# EAGLE library part JOYSTICK_MINI (library Dennistries-Josh)
Joystick Mini A small joystick
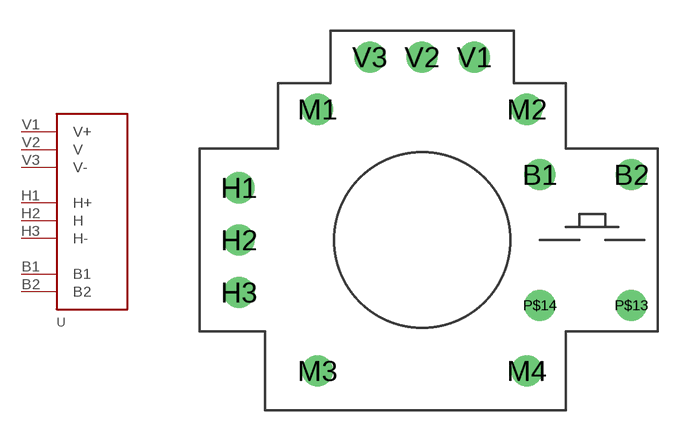
[diagram p49: symbol with the pads of JOYSTICK_SMALL; footprint JOYSTICK_SMALL]

Designator prefix -

## JOYSTICK_MINI  [JOYSTICK_SMALL]
B1  B1
B2  B2
H1  H+
H2  H
H3  H-
V1  V+
V2  V
V3  V-

## Footprint JOYSTICK_SMALL (pad centres in mm)
drill 1: B1 5.715,3.175; B2 10.16,3.175; H1 -8.89,2.54; H2 -8.89,0; H3 -8.89,-2.54; M1 -5.08,6.35; M2 5.08,6.35; M3 -5.08,-6.35; M4 5.08,-6.35; P$13 10.16,-3.175; P$14 5.715,-3.175; V1 2.54,8.89; V2 0,8.89; V3 -2.54,8.89